# Altium schematic symbol library rcl.SchLib: 57 symbols
Pins are listed as number, name and electrical type; pins without a type are passive.

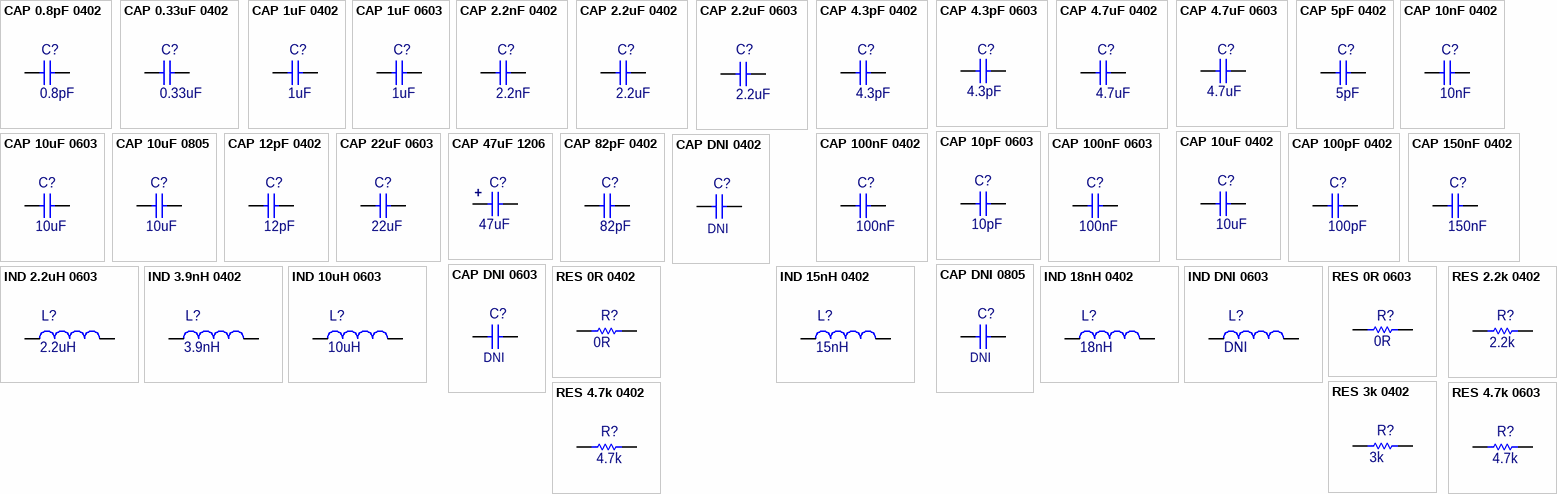
[diagram p0: symbols CAP 0.8pF 0402 to RES 4.7k 0603]

## CAP 0.8pF 0402
designator C?, comment value 0.8pF  (hidden comment: Multilayer Ceramic Capacitor)
CAP CER 0.8PF 50V C0G/NP0 0402; Manufacturer Part Number: GRM1555C1HR80BA01J; Manufacturer: Murata Electronics; Supplier Part Number: 490-11411-1-ND; Voltage Rating: 50v; Package: 0402; Link: https://www.digikey.com/product-detail/en/murata-electronics/GRM1555C1HR80BA01J/490-11411-1-ND/5333251; Supplier: Digikey
footprint C0402
pins: 1, 2
1 alternate drawing of the same symbol

## CAP 0.33uF 0402
designator C?, comment value 0.33uF  (hidden comment: Multilayer Ceramic Capacitor)
CAP CER 0.33UF 10V X6S 0402; Manufacturer Part Number: GRM155R61A334KE15D; Manufacturer: Murata Electronics; Supplier Part Number: 490-3263-1-ND; Voltage Rating: 10V; Package: 0402; Link: https://www.digikey.com/en/products/detail/murata-electronics/GRM155R61A334KE15D/702527; Supplier: Digikey
footprint C0402
pins: 1, 2
1 alternate drawing of the same symbol

## CAP 1uF 0402
designator C?, comment value 1uF  (hidden comment: Multilayer Ceramic Capacitor)
CAP CER 1UF 10V X6S 0402; Manufacturer Part Number: GRM155C81A105KA12D; Manufacturer: Murata Electronics; Supplier Part Number: 490-12699-1-ND; Voltage Rating: 10V; Package: 0402; Link: https://www.digikey.com/product-detail/en/murata-electronics/GRM155C81A105KA12D/490-12699-1-ND/5797668; Supplier: Digikey
footprint C0402
pins: 1, 2
1 alternate drawing of the same symbol

## CAP 1uF 0603
designator C?, comment value 1uF  (hidden comment: Multilayer Ceramic Capacitor)
CAP CER 1UF 10V X5R 0603; Manufacturer Part Number: CL10A105KP8NNNC; Manufacturer: Samsung Electro-Mechanics; Voltage Rating: 16V; Supplier Part Number: 1276-1182-1-ND; Package: 0603; Link: https://www.digikey.com/product-detail/en/samsung-electro-mechanics/CL10A105KP8NNNC/1276-1182-1-ND/3889268; Supplier: Digikey
footprint C0603 (non polarized)
pins: 1, 2
1 alternate drawing of the same symbol

## CAP 2.2nF 0402
designator C?, comment value 2.2nF  (hidden comment: Multilayer Ceramic Capacitor)
CAP CER 2.2nF 16V X7R 0402; Manufacturer Part Number: GCM155R72A222KA37D; Manufacturer: Murata Electronics; Supplier Part Number: 490-4911-1-ND; Voltage Rating: 16V; Package: 0402; Link: https://www.digikey.com/en/products/detail/murata-electronics/GCM155R72A222KA37D/1765159; Supplier: Digikey
footprint C0402
pins: 1, 2
1 alternate drawing of the same symbol

## CAP 2.2uF 0402
designator C?, comment value 2.2uF  (hidden comment: Multilayer Ceramic Capacitor)
CAP CER 2.2UF 6.3V X5R 0402; Manufacturer Part Number: GRM155R60J225ME15D; Manufacturer: Murata Electronics; Supplier Part Number: 490-4519-1-ND; Voltage Rating: 6.3V; Package: 0402; Link: https://www.digikey.com/product-detail/en/murata-electronics/GRM155R60J225ME15D/490-4519-1-ND/1033278; Supplier: Digikey
footprint C0402
pins: 1, 2
1 alternate drawing of the same symbol

## CAP 2.2uF 0603
designator C?, comment value 2.2uF  (hidden comment: Multilayer Ceramic Capacitor)
CAP CER 2.2UF 10V X5R 0603; Manufacturer Part Number: CL10A225KP8NNNC; Manufacturer: Samsung Electro-Mechanics; Voltage Rating: 50V; Supplier Part Number: 1276-1085-1-ND; Package: 0603; Link: https://www.digikey.com/product-detail/en/samsung-electro-mechanics/CL10A225KP8NNNC/1276-1085-1-ND/3889171; Supplier: Digikey
footprint C0603 (non polarized)
pins: 1, 2
1 alternate drawing of the same symbol

## CAP 4.3pF 0402
designator C?, comment value 4.3pF  (hidden comment: Multilayer Ceramic Capacitor)
CAP CER 4.3PF 50V C0G/NP0 0402; Manufacturer Part Number: GRM1555C1H4R3CA01D; Manufacturer: Murata Electronics; Supplier Part Number: 490-5943-1-ND; Voltage Rating: 50V; Package: 0402; Link: https://www.digikey.com/product-detail/en/murata-electronics/GRM1555C1H4R3CA01D/490-5943-1-ND/3721300; Supplier: Digikey
footprint C0402
pins: 1, 2
1 alternate drawing of the same symbol

## CAP 4.3pF 0603
designator C?, comment value 4.3pF  (hidden comment: Multilayer Ceramic Capacitor)
CAP CER 4.3PF 50V C0G/NP0 0603; Manufacturer Part Number: CL10C4R3CB8NNNC; Manufacturer: Samsung Electro-Mechanics; Supplier Part Number: 1276-2309-1-ND; Voltage Rating: 50V; Package: 0603; Link: https://www.digikey.com/product-detail/en/samsung-electro-mechanics/CL10C4R3CB8NNNC/1276-2309-1-ND/3890395; Supplier: Digikey
footprint C0603 (non polarized)
pins: 1, 2
1 alternate drawing of the same symbol

## CAP 4.7uF 0402
designator C?, comment value 4.7uF  (hidden comment: Multilayer Ceramic Capacitor)
CAP CER 4.7UF 6.3V X5R 0402; Manufacturer Part Number: GRM155R60J475ME47D; Manufacturer: Murata Electronics; Supplier Part Number: 490-5915-1-ND; Voltage Rating: 6.3V; Package: 0402; Link: https://www.digikey.com/product-detail/en/murata-electronics/GRM155R60J475ME47D/490-5915-1-ND/3719860; Supplier: Digikey
footprint C0402
pins: 1, 2
1 alternate drawing of the same symbol

## CAP 4.7uF 0603
designator C?, comment value 4.7uF  (hidden comment: Multilayer Ceramic Capacitor)
CAP CER 4.7UF 10V X5R 0603; Manufacturer Part Number: CL10A475KP8NNNC; Manufacturer: Samsung Electro-Mechanics; Supplier Part Number: 1276-1044-1-ND; Voltage Rating: 10V; Package: 0603; Link: https://www.digikey.com/product-detail/en/samsung-electro-mechanics/CL10A475KP8NNNC/1276-1044-1-ND/3889130; Supplier: Digikey
footprint C0603 (non polarized)
pins: 1, 2
1 alternate drawing of the same symbol

## CAP 5pF 0402
designator C?, comment value 5pF  (hidden comment: Multilayer Ceramic Capacitor)
CAP CER 5PF 50V C0G/NP0 0402; Manufacturer Part Number: GRM1555C1H5R0WA01D; Manufacturer: Murata Electronics; Supplier Part Number: 490-8214-1-ND; Voltage Rating: 50V; Package: 0402; Link: https://www.digikey.com/en/products/detail/murata-electronics/GRM1555C1H5R0WA01D/3694004; Supplier: Digikey
footprint C0402
pins: 1, 2
1 alternate drawing of the same symbol

## CAP 10nF 0402
designator C?, comment value 10nF  (hidden comment: Multilayer Ceramic Capacitor)
CAP CER 10nF 16V X7R 0402; Manufacturer Part Number: GCM155R71H103KA55D; Manufacturer: Murata Electronics; Supplier Part Number: 490-4762-1-ND; Voltage Rating: 16V; Package: 0402; Link: https://www.digikey.com/en/products/detail/murata-electronics/GCM155R71H103KA55D/1641636; Supplier: Digikey
footprint C0402
pins: 1, 2
1 alternate drawing of the same symbol

## CAP 10pF 0603
designator C?, comment value 10pF  (hidden comment: Multilayer Ceramic Capacitor)
CAP CER 10PF 50V C0G/NP0 0603; Manufacturer Part Number: CL10C100CB8NNNC; Manufacturer: Samsung Electro-Mechanics; Supplier Part Number: 1276-1069-1-ND; Voltage Rating: 50V; Package: 0603; Link: https://www.digikey.com/product-detail/en/samsung-electro-mechanics/CL10C100CB8NNNC/1276-1069-1-ND/3889155; Supplier: Digikey
footprint C0603 (non polarized)
pins: 1, 2
1 alternate drawing of the same symbol

## CAP 10uF 0402
designator C?, comment value 10uF  (hidden comment: Multilayer Ceramic Capacitor)
CAP CER 10UF 4V X5R 0402; Manufacturer Part Number: GRM155R60G106ME44D; Manufacturer: Murata Electronics; Supplier Part Number: 490-10693-1-ND; Voltage Rating: 4V; Package: 0402; Link: https://www.digikey.com/product-detail/en/murata-electronics/GRM155R60G106ME44D/490-10693-1-ND/5251412; Supplier: Digikey
footprint C0402
pins: 1, 2
1 alternate drawing of the same symbol

## CAP 10uF 0603
designator C?, comment value 10uF  (hidden comment: Multilayer Ceramic Capacitor)
CAP CER 10UF 10V X5R 0603; Manufacturer Part Number: GRM188R61A106KE69D; Manufacturer: Murata Electronics; Supplier Part Number: 490-10474-1-ND; Voltage Rating: 10V; Package: 0603; Link: https://www.digikey.com/product-detail/en/murata-electronics/GRM188R61A106KE69D/490-10474-1-ND/5026392; Supplier: Digikey
footprint C0603 (non polarized)
pins: 1, 2
1 alternate drawing of the same symbol

## CAP 10uF 0805
designator C?, comment value 10uF  (hidden comment: Multilayer Ceramic Capacitor)
CAP CER 10UF 10V X5R 0805; Manufacturer Part Number: CL21A106KPFNNNG; Manufacturer: Samsung Electro-Mechanics; Supplier Part Number: 1276-6456-2-ND; Voltage Rating: 10V; Package: 0805; Link: https://www.digikey.co.uk/product-detail/en/samsung-electro-mechanics/CL21A106KPFNNNG/1276-6456-2-ND/3894419; Supplier: Digikey
footprint C0805 (non polarized)
pins: 1, 2
1 alternate drawing of the same symbol

## CAP 12pF 0402
designator C?, comment value 12pF  (hidden comment: Multilayer Ceramic Capacitor)
CAP CER 12PF 50V C0G/NP0 0402; Manufacturer Part Number: GRM1555C1H120JA01J; Manufacturer: Murata Electronics; Supplier Part Number: 490-11375-1-ND; Voltage Rating: 50v; Package: 0402; Link: https://www.digikey.com/product-detail/en/murata-electronics/GRM1555C1H120JA01J/490-11375-1-ND/5333215; Supplier: Digikey
footprint C0402
pins: 1, 2
1 alternate drawing of the same symbol

## CAP 22uF 0603
designator C?, comment value 22uF  (hidden comment: Multilayer Ceramic Capacitor)
CAP CER 22UF 6.3V X5R 0603; Manufacturer Part Number: GRM188R60J226MEA0D; Manufacturer: Murata Electronics; Supplier Part Number: 490-7611-1-ND; Voltage Rating: 6.3V; Package: 0603; Link: https://www.digikey.com/product-detail/en/murata-electronics/GRM188R60J226MEA0D/490-7611-1-ND/4280544; Supplier: Digikey
footprint C0603 (non polarized)
pins: 1, 2
1 alternate drawing of the same symbol

## CAP 47uF 1206
designator C?, comment value 47uF  (hidden comment: Tantalium capacitor)
CAP TANT 47UF 20% 6.3V 1206; Manufacturer Part Number: F930J476MAA; Manufacturer: AVX Corporation; Supplier Part Number: 478-8180-2-ND; Voltage Rating: 6.3V; Package: 1206; Link: https://www.digikey.com/product-detail/en/avx-corporation/F930J476MAA/478-8180-2-ND/4005131; Supplier: Digikey
footprint C1206 (polorized)
pins: 1, 2
1 alternate drawing of the same symbol
text: +

## CAP 82pF 0402
designator C?, comment value 82pF  (hidden comment: Multilayer Ceramic Capacitor)
CAP CER 82PF 50V C0G/NP0 0402; Manufacturer Part Number: GRM1555C1H820FA01D; Manufacturer: Murata Electronics; Supplier Part Number: 490-8228-1-ND; Voltage Rating: 50V; Package: 0402; Link: https://www.digikey.com/en/products/detail/murata-electronics/GRM1555C1H820FA01D/3694031; Supplier: Digikey
footprint C0402
pins: 1, 2
1 alternate drawing of the same symbol

## CAP 100nF 0402
designator C?, comment value 100nF  (hidden comment: Multilayer Ceramic Capacitor)
CAP CER 0.1UF 16V X7R 0402; Manufacturer Part Number: GRM155R71C104KA88J; Manufacturer: Murata Electronics; Supplier Part Number: 490-6328-1-ND; Voltage Rating: 16V; Package: 0402; Link: https://www.digikey.com/product-detail/en/murata-electronics/GRM155R71C104KA88J/490-6328-1-ND/3845525; Supplier: Digikey
footprint C0402
pins: 1, 2
1 alternate drawing of the same symbol

## CAP 100nF 0603
designator C?, comment value 100nF  (hidden comment: Multilayer Ceramic Capacitor)
CAP CER 0.1UF 50V X7R 0603; Manufacturer Part Number: CL10B104KB8NNNL; Manufacturer: Samsung Electro-Mechanics; Supplier Part Number: 1276-CL10B104KB8NNNLCT-ND; Voltage Rating: 50V; Package: 0603; Link: https://www.digikey.com/product-detail/en/samsung-electro-mechanics/CL10B104KB8NNNL/1276-CL10B104KB8NNNLCT-ND/10320686; Supplier: Digikey
footprint C0603 (non polarized)
pins: 1, 2
1 alternate drawing of the same symbol

## CAP 100pF 0402
designator C?, comment value 100pF  (hidden comment: Multilayer Ceramic Capacitor)
CAP CER 100PF 50V C0G/NP0 0402; Manufacturer Part Number: GRM1555C1H101JA01J; Manufacturer: Murata Electronics; Supplier Part Number: 490-7754-1-ND; Voltage Rating: 50v; Package: 0402; Link: https://www.digikey.com/product-detail/en/murata-electronics/GRM1555C1H101JA01J/490-7754-1-ND/4358006; Supplier: Digikey
footprint C0402
pins: 1, 2
1 alternate drawing of the same symbol

## CAP 150nF 0402
designator C?, comment value 150nF  (hidden comment: Multilayer Ceramic Capacitor)
CAP CER 150nF 16V X7R 0402; Manufacturer Part Number: GRM155R60J154KE01D; Manufacturer: Murata Electronics; Supplier Part Number: 490-6290-1-ND; Voltage Rating: 16V; Package: 0402; Link: https://www.digikey.com/en/products/detail/murata-electronics/GRM155R60J154KE01D/2610822; Supplier: Digikey
footprint C0402
pins: 1, 2
1 alternate drawing of the same symbol

## CAP DNI 0402
designator C?, comment value DNI  (hidden comment: Multilayer Ceramic Capacitor)
DNI (Do Not Install)
footprint C0402_DNI
pins: 1, 2
1 alternate drawing of the same symbol

## CAP DNI 0603
designator C?, comment value DNI  (hidden comment: Multilayer Ceramic Capacitor)
DNI (Do Not Install)
footprint C0603_DNI (non polarized)
pins: 1, 2
1 alternate drawing of the same symbol

## CAP DNI 0805
designator C?, comment value DNI  (hidden comment: Multilayer Ceramic Capacitor)
DNI (Do Not Install)
footprint C0805 (non polarized)
pins: 1, 2
1 alternate drawing of the same symbol

## IND 2.2uH 0603
designator L?  value 2.2uH
2.2UH20% 1.05A(MAX) / 1.15A(TYP.; Manufacturer: Murata Electronics; Manufacturer Part Number: LQM18PN2R2MGHD; Tolerance: 20%; Supplier Part Number: 490-14478-6-ND; Package: 0603; Link: https://www.digikey.co.uk/product-detail/en/murata-electronics/LQM18PN2R2MGHD/490-14478-6-ND/6607082; Supplier: Digikey
footprint L0603
pins: 1, 2
1 alternate drawing of the same symbol

## IND 3.9nH 0402
designator L?  value 3.9nH
FIXED IND 3.9NH 750MA 180 MOHM; Manufacturer: Murata Electronics; Manufacturer Part Number: LQG15HS3N9S02D; Tolerance: 5%; Supplier Part Number: 490-2617-1-ND; Package: 0603; Link: https://www.digikey.com/product-detail/en/murata-electronics/LQG15HS3N9S02D/490-2617-1-ND/662897; Supplier: Digikey
footprint L0402
pins: 1, 2
1 alternate drawing of the same symbol

## IND 10uH 0603
designator L?  value 10uH
FIXED IND 10UH 50MA 900 MOHM SMD; Manufacturer: Murata Electronics; Manufacturer Part Number: LQM18FN100M00D; Tolerance: 20%; Supplier Part Number: 490-4025-1-ND; Package: 0603; Link: https://www.digikey.com/product-detail/en/murata-electronics/LQM18FN100M00D/490-4025-1-ND/1016285; Supplier: Digikey
footprint L0603
pins: 1, 2
1 alternate drawing of the same symbol

## IND 15nH 0402
designator L?  value 15nH
FIXED IND 15NH 450MA 320 MOHM; Manufacturer: Murata Electronics; Manufacturer Part Number: LQG15HS15NJ02D; Tolerance: 5%; Supplier Part Number: 490-2625-1-ND; Package: 0402; Link: https://www.digikey.com/product-detail/en/murata-electronics/LQG15HS15NJ02D/490-2625-1-ND/662905; Supplier: Digikey
footprint L0402
pins: 1, 2
1 alternate drawing of the same symbol

## IND 18nH 0402
designator L?  value 18nH
FIXED IND 18NH 400MA 360 mOHM; Manufacturer: Murata Electronics; Manufacturer Part Number: LQG15HS18NJ02D; Tolerance: 5%; Supplier Part Number: 490-2625-1-ND; Package: 0402; Link: https://www.digikey.com/en/products/detail/murata-electronics/LQG15HS18NJ02D/662875; Supplier: Digikey
footprint L0402
pins: 1, 2
1 alternate drawing of the same symbol

## IND DNI 0603
designator L?  value DNI
DNI (Do Not Install); Supplier: Digikey
footprint C0603_DNI (non polarized)
pins: 1, 2
1 alternate drawing of the same symbol

## RES 0R 0402
designator R?, comment value 0R  (hidden comment: Thick Film)
RES SMD 0 OHM JUMPER 1/16W 0402; Manufacturer: Yageo; Manufacturer Part Number: RC0402JR-070RL; Tolerance: 1%; Supplier Part Number: 311-0.0JRCT-ND; Package: 0402; Power: 1/16W; Link: https://www.digikey.com/product-detail/en/yageo/RC0402JR-070RL/311-0-0JRCT-ND/729353; Supplier: Digikey
footprint R0402
pins: 1, 2
1 alternate drawing of the same symbol

## RES 0R 0603
designator R?, comment value 0R  (hidden comment: Thick Film)
RES SMD 0 OHM JUMPER 1/10W 0603; Manufacturer: Panasonic; Manufacturer Part Number: ERJ-3GEY0R00V; Tolerance: 1%; Supplier Part Number: P0.0GCT-ND; Package: 0603; Power: 1/10W; Link: https://www.digikey.co.uk/product-detail/en/panasonic-electronic-components/ERJ-3GEY0R00V/P0.0GCT-ND/134711; Supplier: Digikey
footprint R0603 (non polarized)
pins: 1, 2
1 alternate drawing of the same symbol

## RES 2.2k 0402
designator R?, comment value 2.2k  (hidden comment: Thick Film)
RES SMD 2.2K OHM 1% 1/16W 0402; Manufacturer: Yageo; Manufacturer Part Number: RC0402FR-072K2L; Supplier Part Number: 311-2.20KLRCT-ND; Tolerance: 1%; Package: 0402; Power: 1/16W; Link: https://www.digikey.co.uk/product-detail/en/yageo/RC0402FR-072K2L/311-2-20KLRCT-ND/729500; Supplier: Digikey
footprint R0402
pins: 1, 2
1 alternate drawing of the same symbol

## RES 3k 0402
designator R?, comment value 3k  (hidden comment: Thick Film)
RES SMD 3K OHM 1% 1/16W 0402; Manufacturer: Yageo; Manufacturer Part Number: RC0402FR-073KL; Supplier Part Number: 311-3KLRCT-ND; Tolerance: 1%; Package: 0402; Power: 1/16W; Link: https://www.digikey.co.uk/product-detail/en/yageo/RC0402FR-073KL/311-3KLRCT-ND/2827904; Supplier: Digikey
footprint R0402
pins: 1, 2
1 alternate drawing of the same symbol

## RES 4.7k 0402
designator R?, comment value 4.7k  (hidden comment: Thick Film)
RES SMD 4.7K OHM 1% 1/16W 0402; Manufacturer: Yageo; Manufacturer Part Number: RT0402FRE074K7L; Supplier Part Number: YAG3347CT-ND; Tolerance: 1%; Power: 1/16W; Link: https://www.digikey.co.uk/product-detail/en/yageo/RT0402FRE074K7L/YAG3347CT-ND/5418052; Supplier: Digikey
footprint R0402
pins: 1, 2
1 alternate drawing of the same symbol

## RES 4.7k 0603
designator R?, comment value 4.7k  (hidden comment: Thick Film)
RES SMD 4.7K OHM 5% 1/10W 0603; Manufacturer: Panasonic; Manufacturer Part Number: ERJ-3GEYJ472V; Tolerance: 1%; Supplier Part Number: P4.7KGCT-ND; Package: 0603; Power: 1/10W; Link: https://www.digikey.co.uk/product-detail/en/panasonic-electronic-components/ERJ-3GEYJ472V/P4.7KGCT-ND/135199; Supplier: Digikey
footprint R0603 (non polarized)
pins: 1, 2
1 alternate drawing of the same symbol

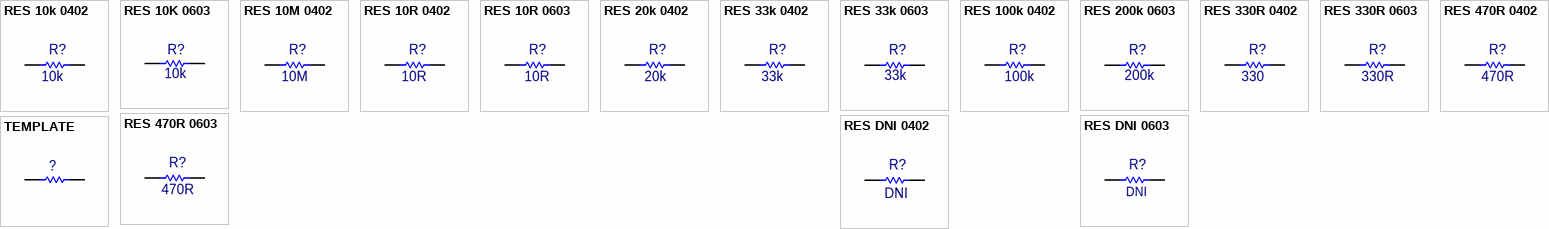
[diagram p1: symbols RES 10k 0402 to TEMPLATE]

## RES 10k 0402
designator R?, comment value 10k  (hidden comment: Thick Film)
RES SMD 10K OHM 1% 1/16W 0402; Manufacturer: Yageo; Manufacturer Part Number: RC0402FR-0710KL; Supplier Part Number: 311-10.0KLRCT-ND; Tolerance: 1%; Package: 0402; Power: 1/16W; Link: https://www.digikey.com/product-detail/en/yageo/RC0402FR-0710KL/311-10-0KLRCT-ND/729470; Supplier: Digikey
footprint R0402
pins: 1, 2
1 alternate drawing of the same symbol

## RES 10K 0603
designator R?, comment value 10k  (hidden comment: Thick Film)
RES SMD 10K OHM 0.1% 1/10W 0603; Manufacturer: Panasonic; Manufacturer Part Number: ERJ-3EKF1002V; Tolerance: 1%; Supplier Part Number: P10.0KHCT-ND; Package: 0603; Power: 1/10W; Link: https://www.digikey.co.uk/product-detail/en/panasonic-electronic-components/ERJ-3EKF1002V/P10.0KHCT-ND/198102; Supplier: Digikey
footprint R0603 (non polarized)
pins: 1, 2
1 alternate drawing of the same symbol

## RES 10M 0402
designator R?, comment value 10M  (hidden comment: Thick Film)
RES SMD 10 MOHM 1% 1/16W 0402; Manufacturer: Yageo; Manufacturer Part Number: RC0402FR-0710ML; Supplier Part Number: 311-10.0MLRCT-ND; Tolerance: 1%; Package: 0402; Power: 1/16W; Link: https://www.digikey.co.uk/product-detail/en/yageo/RC0402FR-0710ML/311-10-0MLRCT-ND/2827890; Supplier: Digikey
footprint R0402
pins: 1, 2
1 alternate drawing of the same symbol

## RES 10R 0402
designator R?, comment value 10R  (hidden comment: Thick Film)
RES SMD 10 OHM 1% 1/16W 0402; Manufacturer: Yageo; Manufacturer Part Number: RC0402FR-0710RL; Supplier Part Number: 311-10.0LRCT-ND; Tolerance: 1%; Package: 0402; Power: 1/16W; Link: https://www.digikey.co.uk/product-detail/en/yageo/RC0402FR-0710RL/311-10-0LRCT-ND/729471; Supplier: Digikey
footprint R0402
pins: 1, 2
1 alternate drawing of the same symbol

## RES 10R 0603
designator R?, comment value 10R  (hidden comment: Thick Film)
RES SMD 10 OHM 1% 1/4W 0603; Manufacturer: Panasonic; Manufacturer Part Number: ERJ-PA3F10R0V; Power: 1/10W; Supplier Part Number: P10.00BYCT-ND; Tolerance: 1%; Package: 0603; Link: https://www.digikey.co.uk/product-detail/en/panasonic-electronic-components/ERJ-PA3F10R0V/P10-00BYCT-ND/5036118; Supplier: Digikey
footprint R0603 (non polarized)
pins: 1, 2
1 alternate drawing of the same symbol

## RES 20k 0402
designator R?, comment value 20k  (hidden comment: Thick Film)
RES SMD 20K OHM 1% 1/16W 0402; Manufacturer: Yageo; Manufacturer Part Number: RC0402FR-0720KL; Supplier Part Number: 311-20.0KLRCT-ND; Tolerance: 1%; Power: 1/16W; Link: https://www.digikey.co.uk/product-detail/en/yageo/RC0402FR-0720KL/311-20-0KLRCT-ND/729504; Supplier: Digikey
footprint R0402
pins: 1, 2
1 alternate drawing of the same symbol

## RES 33k 0402
designator R?, comment value 33k  (hidden comment: Thick Film)
RES SMD 33K OHM 1% 1/16W 0402; Manufacturer: Yageo; Manufacturer Part Number: RT0402FRE0733KL; Supplier Part Number: YAG5933CT-ND; Tolerance: 1%; Package: 0402; Power: 1/16W; Link: https://www.digikey.com/product-detail/en/yageo/RT0402FRE0733KL/YAG5933CT-ND/9370963; Supplier: Digikey
footprint R0402
pins: 1, 2
1 alternate drawing of the same symbol

## RES 33k 0603
designator R?, comment value 33k  (hidden comment: Thick Film)
RES SMD 33K OHM 1% 1/10W 0603; Manufacturer: Panasonic; Manufacturer Part Number: ERJ-3EKF3302V; Supplier Part Number: P33.0KHCT-ND; Tolerance: 1%; Package: 0603; Power: 1/10W; Link: https://www.digikey.co.uk/product-detail/en/ERJ-3EKF3302V/P33.0KHCT-ND/1746763?utm_campaign=buynow&WT.z_cid=ref_octopart_dkc_buynow&utm_medium=aggregator&curr=gbp&site=us&utm_source=octopart; Supplier: Digikey
footprint R0603 (non polarized)
pins: 1, 2
1 alternate drawing of the same symbol

## RES 100k 0402
designator R?, comment value 100k  (hidden comment: Thick Film)
RES SMD 100K OHM 1% 1/16W 0402; Manufacturer: Yageo; Manufacturer Part Number: RC0402FR-07100KL; Supplier Part Number: 311-100KLRCT-ND; Tolerance: 1%; Power: 1/16W; Link: https://www.digikey.co.uk/product-detail/en/yageo/RC0402FR-07100KL/311-100KLRCT-ND/729473; Supplier: Digikey
footprint R0402
pins: 1, 2
1 alternate drawing of the same symbol

## RES 200k 0603
designator R?, comment value 200k  (hidden comment: Thick Film)
RES SMD 200K OHM 1% 1/10W 0603; Manufacturer: Panasonic; Manufacturer Part Number: ERJ-3EKF2003V; Supplier Part Number: P200KHCT-ND; Tolerance: 1%; Package: 0603; Power: 1/10W; Link: https://www.digikey.co.uk/product-detail/en/panasonic-electronic-components/ERJ-3EKF2003V/P200KHCT-ND/198241; Supplier: Digikey
footprint R0603 (non polarized)
pins: 1, 2
1 alternate drawing of the same symbol

## RES 330R 0402
designator R?, comment value 330  (hidden comment: Thick Film)
RES SMD 330 OHM 1% 1/16W 0402; Manufacturer: Yageo; Manufacturer Part Number: RC0402FR-07330RL; Supplier Part Number: 311-330LRCT-ND; Tolerance: 1%; Package: 0402; Power: 1/16W; Link: https://www.digikey.co.uk/product-detail/en/yageo/RC0402FR-07330RL/311-330LRCT-ND/729541; Supplier: Digikey
footprint R0402
pins: 1, 2
1 alternate drawing of the same symbol

## RES 330R 0603
designator R?, comment value 330R  (hidden comment: Thick Film)
RES SMD 330 OHM 1% 1/10W 0603; Manufacturer: Panasonic; Manufacturer Part Number: ERJ-3EKF3300V; Supplier Part Number: P330HCT-ND; Tolerance: 1%; Package: 0603; Power: 1/10W; Link: https://www.digikey.co.uk/product-detail/en/panasonic-electronic-components/ERJ-3EKF3300V/P330HCT-ND/1746761; Supplier: Digikey
footprint R0603 (non polarized)
pins: 1, 2
1 alternate drawing of the same symbol

## RES 470R 0402
designator R?, comment value 470R  (hidden comment: Thick Film)
RES SMD 470 OHM 1% 1/16W 0402; Manufacturer: Yageo; Manufacturer Part Number: RC0402FR-07470RL; Supplier Part Number: 311-470LRCT-ND; Tolerance: 1%; Package: 0402; Power: 1/16W; Link: https://www.digikey.com/product-detail/en/yageo/RC0402FR-07470RL/311-470LRCT-ND/729566; Supplier: Digikey
footprint R0402
pins: 1, 2
1 alternate drawing of the same symbol

## RES 470R 0603
designator R?, comment value 470R  (hidden comment: Thick Film)
RES SMD 470 OHM 1% 1/10W 0603; Manufacturer: Panasonic; Manufacturer Part Number: ERJ-3EKF4700V; Supplier Part Number: P470HTR-ND; Tolerance: 1%; Package: 0603; Power: 1/10W; Link: https://www.digikey.co.uk/product-detail/en/panasonic-electronic-components/ERJ-3EKF4700V/P470HTR-ND/1746417; Supplier: Digikey
footprint R0603 (non polarized)
pins: 1, 2
1 alternate drawing of the same symbol

## RES DNI 0402
designator R?, comment value DNI  (hidden comment: Thick Film)
DNI (Do Not Install)
footprint R0402_DNI
pins: 1, 2
1 alternate drawing of the same symbol

## RES DNI 0603
designator R?  value DNI
DNI (Do Not Install)
footprint R0603_DNI (non polarized)
pins: 1, 2
1 alternate drawing of the same symbol

## TEMPLATE
designator ?
Supplier: Digikey
pins: 1, 2
1 alternate drawing of the same symbol